# Altium schematic symbol library SCH - CONNECTORS - RCA CONNECTOR.SCHLIB: 1 symbol
Pins are listed as number, name and electrical type; pins without a type are passive.

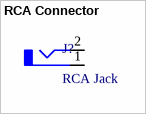
[diagram p0: symbol RCA Connector]

## RCA Connector
designator J?, comment RCA Jack
pins: 1 Centre, 2 Outer